# EAGLE library part HXR050ST (library con-thomas-betts)
THOMAS&BETTS
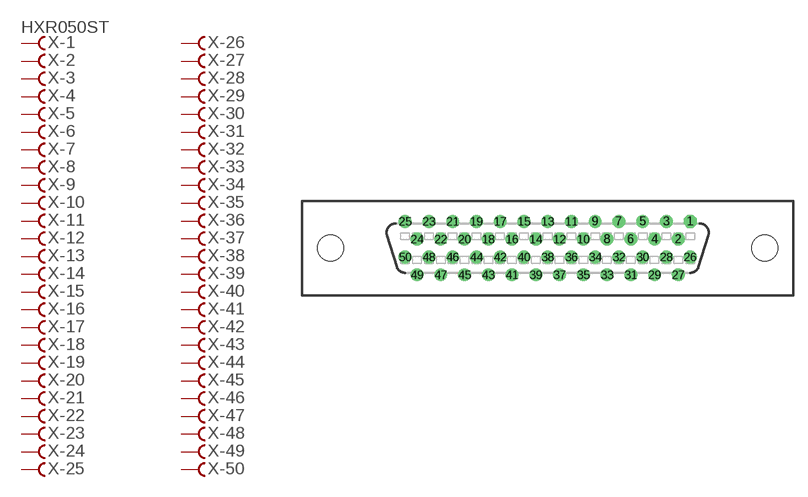
[diagram p2: symbol with the pads of HXR050ST; footprint HXR050ST]

Designator prefix X; gates -1=FV -2=F -3=F -4=F -5=F -6=F -7=F -8=F -9=F -10=F -11=F -12=F -13=F -14=F -15=F -16=F -17=F -18=F -19=F -20=F -21=F -22=F -23=F -24=F -25=F -26=F -27=F -28=F -29=F -30=F -31=F -32=F -33=F -34=F -35=F -36=F -37=F -38=F -39=F -40=F -41=F -42=F -43=F -44=F -45=F -46=F -47=F -48=F -49=F -50=F

## HXR050ST (OC_FARNELL: unknown; OC_NEWARK: unknown)  [HXR050ST]
1  -1:F  pas
2  -2:F  pas
3  -3:F  pas
4  -4:F  pas
5  -5:F  pas
6  -6:F  pas
7  -7:F  pas
8  -8:F  pas
9  -9:F  pas
10  -10:F  pas
11  -11:F  pas
12  -12:F  pas
13  -13:F  pas
14  -14:F  pas
15  -15:F  pas
16  -16:F  pas
17  -17:F  pas
18  -18:F  pas
19  -19:F  pas
20  -20:F  pas
21  -21:F  pas
22  -22:F  pas
23  -23:F  pas
24  -24:F  pas
25  -25:F  pas
26  -26:F  pas
27  -27:F  pas
28  -28:F  pas
29  -29:F  pas
30  -30:F  pas
31  -31:F  pas
32  -32:F  pas
33  -33:F  pas
34  -34:F  pas
35  -35:F  pas
36  -36:F  pas
37  -37:F  pas
38  -38:F  pas
39  -39:F  pas
40  -40:F  pas
41  -41:F  pas
42  -42:F  pas
43  -43:F  pas
44  -44:F  pas
45  -45:F  pas
46  -46:F  pas
47  -47:F  pas
48  -48:F  pas
49  -49:F  pas
50  -50:F  pas

## Footprint HXR050ST (pad centres in mm)
THOMAS&BETTS HFR050ST29xx, HHR050ST29xx
drill 0.864 octagon: 1 15.24,2.857
drill 0.864: 2 13.97,0.953; 3 12.7,2.857; 4 11.43,0.953; 5 10.16,2.857; 6 8.89,0.953; 7 7.62,2.857; 8 6.35,0.953; 9 5.08,2.857; 10 3.81,0.953; 11 2.54,2.857; 12 1.27,0.953; 13 0,2.857; 14 -1.27,0.953; 15 -2.54,2.857; 16 -3.81,0.953; 17 -5.08,2.857; 18 -6.35,0.953; 19 -7.62,2.857; 20 -8.89,0.953; 21 -10.16,2.857; 22 -11.43,0.953; 23 -12.7,2.857; 24 -13.97,0.953; 25 -15.24,2.857; 26 15.24,-0.953; 27 13.97,-2.857; 28 12.7,-0.953; 29 11.43,-2.857; 30 10.16,-0.953; 31 8.89,-2.857; 32 7.62,-0.953; 33 6.35,-2.857; 34 5.08,-0.953; 35 3.81,-2.857; 36 2.54,-0.953; 37 1.27,-2.857; 38 0,-0.953; 39 -1.27,-2.857; 40 -2.54,-0.953; 41 -3.81,-2.857; 42 -5.08,-0.953; 43 -6.35,-2.857; 44 -7.62,-0.953; 45 -8.89,-2.857; 46 -10.16,-0.953; 47 -11.43,-2.857; 48 -12.7,-0.953; 49 -13.97,-2.857; 50 -15.24,-0.953
hole 2.769 at 23.241,0.013
hole 2.769 at -23.241,0.013